# Altium schematic symbol library MP3302.SchLib: 1 symbol
Pins are listed as number, name and electrical type; pins without a type are passive.

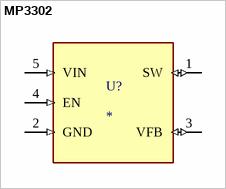
[diagram p0: symbol MP3302]

## MP3302
designator U?
MP: TPS563201DDCR; MF: {'manufacturer': u'Texas Instruments'}; Price: None; Availability: Unavailable; Package: None; Value: *
pins: 1 SW (io), 2 GND (in), 3 VFB (io), 4 EN (in), 5 VIN (in)